# Altium footprint library TBP01R2W50802BE.PcbLib: 1 footprints
Each footprint in its own frame and in the unit in brackets; x right, y up, seen from the top. Pads: shape width x height; smd on the part's side, far side on the other; paste and mask are expansions set on the pad; w line width, h text height; cw(c..) or ccw(c..) is an arc to the next point about the centre after c.
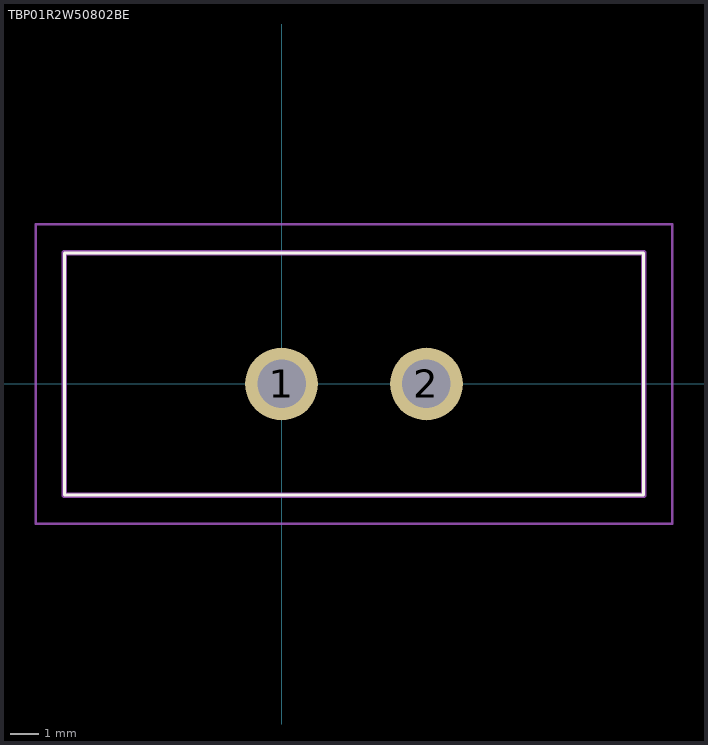
[diagram p0: the footprint, top view; thin cyan lines are the x and y axes]

## TBP01R2W50802BE [mm]
pads (2):
  round 2.55 hole 1.7: 1(0,0) 2(5.08,0)
Top Overlay:
  lines w0.1: -7.62,-3.9 12.7,-3.9 12.7,4.6 -7.62,4.6 -7.62,-3.9
Mechanical 15:
  lines w0.2: -7.62,-3.9 12.7,-3.9 12.7,4.6 -7.62,4.6 -7.62,-3.9
Mechanical 20:
  lines w0.1: -8.62,-4.9 13.7,-4.9 13.7,5.6 -8.62,5.6 -8.62,-4.9